# EAGLE library part CRAZYGIRAFFE_ISD25120 (library CrazyGiraffe-Tardis)
IC MEM VOICE REC/PLAY 120S 28DIP
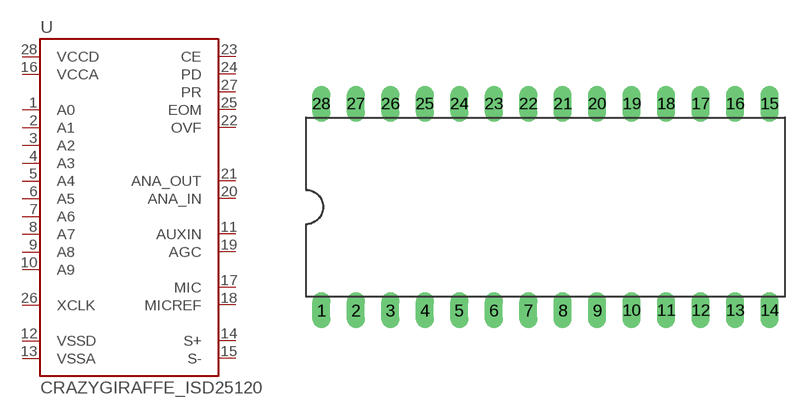
[diagram p1: symbol with the pads of CRAZYGIRAFFE_DIL28-6; footprint CRAZYGIRAFFE_DIL28-6]

Designator prefix -

## CRAZYGIRAFFE_ISD25120  [CRAZYGIRAFFE_DIL28-6]
1  A0  in
2  A1  in
3  A2  in
4  A3  in
5  A4  in
6  A5  in
7  A6  in
8  A7  in
9  A8  in
10  A9  in
11  AUXIN
12  VSSD  sup
13  VSSA  sup
14  S+
15  S-
16  VCCA  pwr
17  MIC
18  MICREF
19  AGC
20  ANA_IN
21  ANA_OUT
22  OVF
23  CE
24  PD
25  EOM
26  XCLK
27  PR
28  VCCD  pwr

## Footprint CRAZYGIRAFFE_DIL28-6 (pad centres in mm)
Dual In Line Package 0.6 inch
drill 0.813 long: 1 -16.51,-7.62; 2 -13.97,-7.62; 3 -11.43,-7.62; 4 -8.89,-7.62; 5 -6.35,-7.62; 6 -3.81,-7.62; 7 -1.27,-7.62; 8 1.27,-7.62; 9 3.81,-7.62; 10 6.35,-7.62; 11 8.89,-7.62; 12 11.43,-7.62; 13 13.97,-7.62; 14 16.51,-7.62; 15 16.51,7.62; 16 13.97,7.62; 17 11.43,7.62; 18 8.89,7.62; 19 6.35,7.62; 20 3.81,7.62; 21 1.27,7.62; 22 -1.27,7.62; 23 -3.81,7.62; 24 -6.35,7.62; 25 -8.89,7.62; 26 -11.43,7.62; 27 -13.97,7.62; 28 -16.51,7.62